# EAGLE library part WE-D-SUB_SMD90_240617113 (library Wurth_Signal & Communications_WE-D-SUB)
WE-D-SUB Filter Bent 90° SMT Characteristics Standard type filtered with 1000 pF High attenuation of more than 40 dB @ 180 MHz Low size: 6.3 mm Rated voltage: 125 VDC Rated current @ 20 ºC: 5 A Withstand voltage: 250 VRMS Insulation resistance: min. 1000 MΩ Operating temperature: –55 ºC to +125 ºC Applications Filtering of interfaces External connection to -printer -sensor -display <https://katalog.we-online.de/media/images/v2/o14706v209%20Family_240117113_240617113.jpg> Details see: https://katalog.we-online.de/en/pbs/D-SUB-FILTER-BENT90-SMD Updated by Ella Wu 2019-09-10 2019(C) Wurth Elektronik
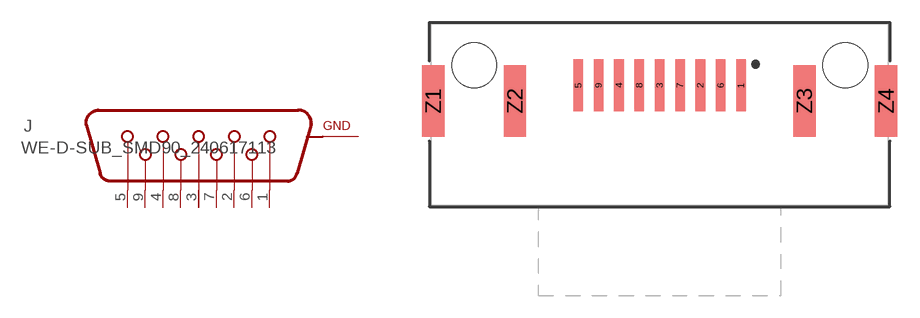
[diagram p33: symbol with the pads of WE-D-SUB_SMD90_240617113; footprint WE-D-SUB_SMD90_240617113]

Designator prefix J

## WE-D-SUB_SMD90_240617113 (DATASHEET-URL: https://katalog.we-online.de/pbs/datasheet/240617113.pdf; MOUNT: SMT; PART-NUMBER: 240617113; POLES: 9; TYPE: Female)  [WE-D-SUB_SMD90_240617113]
1  5  pas
2  4  pas
3  3  pas
4  2  pas
5  1  pas
6  9  pas
7  8  pas
8  7  pas
9  6  pas
Z1  GND  pwr
Z2  GND  pwr
Z3  GND  pwr
Z4  GND  pwr

## Footprint WE-D-SUB_SMD90_240617113 (pad centres in mm)
WE-D-SUB Filter Bent 90° SMT 9 Poles , Female
smd 0.65 x 3.5: 1 5.48,-1.35; 2 2.74,-1.35; 3 0,-1.35; 4 -2.74,-1.35; 5 -5.48,-1.35; 6 4.11,-1.35; 7 1.37,-1.35; 8 -1.37,-1.35; 9 -4.11,-1.35
smd 1.5 x 4.8: Z1 -15.25,-2.4; Z2 -9.75,-2.4; Z3 9.75,-2.4; Z4 15.25,-2.4
hole 3 at -12.5,0
hole 3 at 12.5,0